# EAGLE library part 4164 (library commodore-plus4)
64 K x 1 DRAM
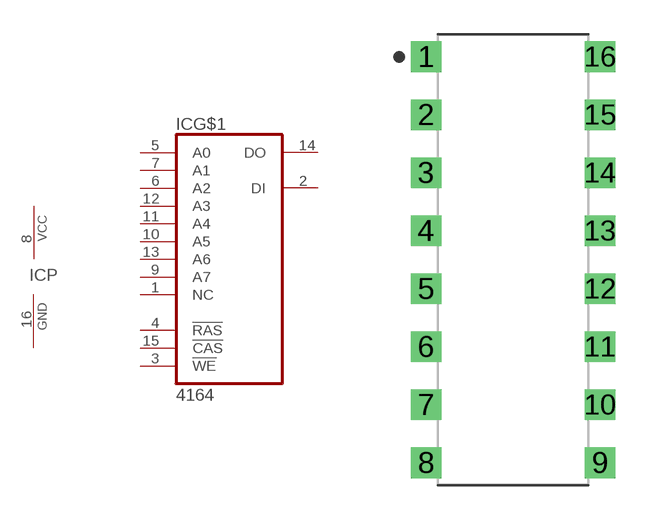
[diagram p4: symbol with the pads of DIP762W53P254L1969H508Q16B; footprint DIP762W53P254L1969H508Q16B]

Designator prefix IC; gates G$1=4164 P=PWRN

## 4164  [DIP762W53P254L1969H508Q16B]
1  G$1:NC  pas
2  G$1:DI  in
3  G$1:!WE  in
4  G$1:!RAS  in
5  G$1:A0  in
6  G$1:A2  in
7  G$1:A1  in
8  P:VCC  pwr
9  G$1:A7  in
10  G$1:A5  in
11  G$1:A4  in
12  G$1:A3  in
13  G$1:A6  in
14  G$1:DO  hiz
15  G$1:!CAS  in
16  P:GND  pwr

## Footprint DIP762W53P254L1969H508Q16B (pad centres in mm)
16-DIP, 2.54 mm (0.10 in) pitch, 7.62 mm (0.30 in) span, 19.69 X 6.60 X 5.08 mm body 16-pin DIP package with 2.54 mm (0.10 in) pitch, 7.62 mm (0.30 in) span with body size 19.69 X 6.60 X 5.08 mm
drill 0.743 pad 1.343 square: 1 -3.81,8.89; 2 -3.81,6.35; 3 -3.81,3.81; 4 -3.81,1.27; 5 -3.81,-1.27; 6 -3.81,-3.81; 7 -3.81,-6.35; 8 -3.81,-8.89; 9 3.81,-8.89; 10 3.81,-6.35; 11 3.81,-3.81; 12 3.81,-1.27; 13 3.81,1.27; 14 3.81,3.81; 15 3.81,6.35; 16 3.81,8.89